# Altium schematic symbol library Inductors.SchLib: 12 symbols
Pins are listed as number, name and electrical type; pins without a type are passive.

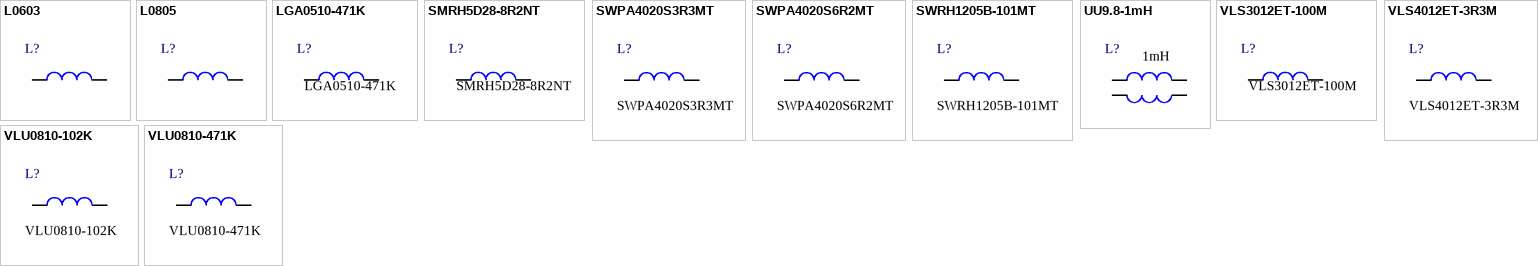
[diagram p0: symbols L0603 to VLU0810-471K]

## L0603
designator L?
Inductance; Max current: A; Mount type: SMT; Size: 0603
footprint 0603L L1
pins: 1, 2

## L0805
designator L?
Inductance; Max current: A; Mount type: SMT; Size: 0805
footprint 0805L L1
footprint 0805L L2
pins: 1, 2

## LGA0510-471K
designator L?  Global part number: LGA0510-471K
Inductance; Manufacture: FH; Max current: 0.126A; Mount type: AI; Size: 5-8*10
footprint L0510H-3MM
footprint L0510H-5MM
pins: 1, 2

## SMRH5D28-8R2NT
designator L?, comment Global part number: SMRH5D28-8R2NT  (hidden comment: 8.2uH)
Inductance; Manufacture: Sunlord; Max current: 1.6A; Mount type: SMT; Size: 5D28; Value: 8.2uH
footprint 5D28L
pins: 1, 2

## SWPA4020S3R3MT
designator L?, comment Global part number: SWPA4020S3R3MT  (hidden comment: 3.3uH)
Inductance; Manufacture: Sunlord; Max current: 1.4A; Mount type: SMT; Size: 4020; Value: 3.3uH
footprint 4020L
pins: 1, 2

## SWPA4020S6R2MT
designator L?, comment Global part number: SWPA4020S6R2MT  (hidden comment: 6.2uH)
Inductance; Manufacture: Sunlord; Max current: 1.08A; Mount type: SMT; Size: 4020; Value: 6.2uH
footprint 4020L
pins: 1, 2

## SWRH1205B-101MT
designator L?, comment Global part number: SWRH1205B-101MT  (hidden comment: 100uH)
Inductance; Manufacture: Sunlord; Max current: 1.3A; Mount type: SMT; Size: 1205; Value: 100uH
footprint 1205L
pins: 1, 2

## UU9.8-1mH
designator L?, comment 1mH
Inductance; Global part number: UU9.8-1mH; Manufacture: FH; Mount type: AI; Size: UU9.8; Value: 1mH
footprint UU9.8
pins: 1, 2, 3, 4

## VLS3012ET-100M
designator L?, comment Global part number: VLS3012ET-100M  (hidden comment: 10uH)
Inductance; Manufacture: TDK; Max current: 0.6A; Mount type: SMT; Size: 3012; Value: 10uH
footprint 5D28L
pins: 1, 2

## VLS4012ET-3R3M
designator L?, comment Global part number: VLS4012ET-3R3M  (hidden comment: 3.3uH)
Inductance; Manufacture: TDK; Max current: 1.4A; Mount type: SMT; Size: 4012; Value: 3.3uH
footprint 4012L
pins: 1, 2

## VLU0810-102K
designator L?, comment Global part number: VLU0810-102K  (hidden comment: 1000uH)
Inductance; Manufacture: FH; Max current: 0.36A; Mount type: AI; Size: 5-8*10; Value: 1000uH
footprint INDRD5-8*10
pins: 1, 2

## VLU0810-471K
designator L?, comment Global part number: VLU0810-471K  (hidden comment: 470uH)
Inductance; Manufacture: FH; Max current: 0.64A; Mount type: AI; Size: 5-8*10; Value: 470uH
footprint INDRD5-8*10
pins: 1, 2